# Altium footprint library RES.PcbLib: 27 footprints (part 1 of 2)
Each footprint in its own frame and in the unit in brackets; x right, y up, seen from the top. Pads: shape width x height; smd on the part's side, far side on the other; paste and mask are expansions set on the pad; w line width, h text height; cw(c..) or ccw(c..) is an arc to the next point about the centre after c.
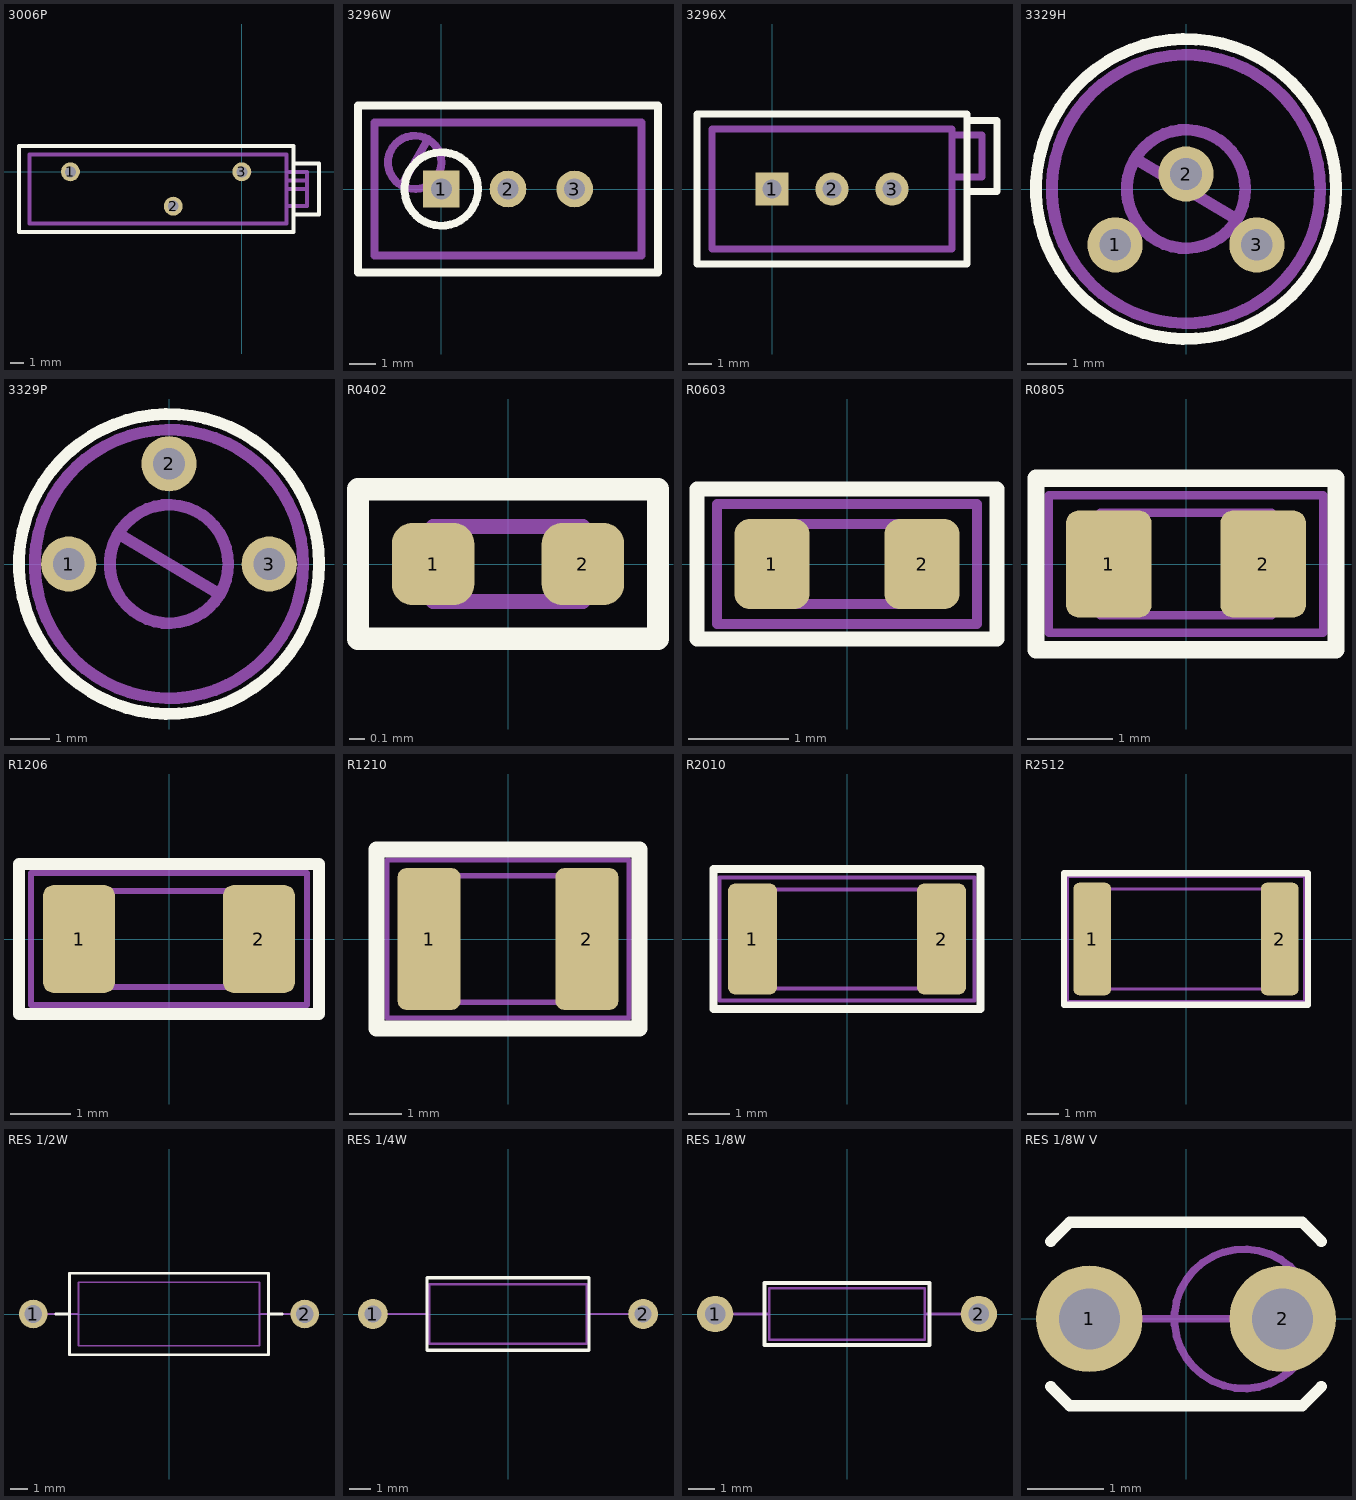
[diagram p0: the footprints below, top view; thin cyan lines are the x and y axes]

## 3006P [mm]
pads (3):
  round 1.4 hole 0.8: 1(-12.7,0) 2(-5.08,-2.54) 3(0,0)
Top Overlay:
  lines w0.3: 3.81,-3.175 5.715,-3.175 5.715,0.635 3.81,0.635 ; -16.51,-4.445 -16.51,1.905 3.81,1.905 3.81,-4.445 -16.51,-4.445
Mechanical 1:
  lines w0.3: 3.302,-2.54 4.826,-2.54 4.826,0 3.302,0 ; 3.302,-1.27 4.826,-1.27 ; 3.302,-0.635 4.826,-0.635 ; -15.748,-3.81 -15.748,1.27 3.302,1.27 3.302,-3.81 -15.748,-3.81
3D body: height 6.4, standoff 0.4, extent -15.748,-3.8 3.3,1.27
3D body: height 5.8, standoff 3.6, extent 3.3,-2.365 4.8,-0.165

## 3296W [mm]
pads (3):
  rect 1.4x1.4 hole 0.8: 1(0,0)
  round 1.4 hole 0.8: 2(2.54,0) 3(5.08,0)
Top Overlay:
  circle w0.3: c0,0 r1.4
  lines w0.3: -3.175,-3.175 -3.175,3.175 8.255,3.175 8.255,-3.175 -3.175,-3.175
Mechanical 1:
  circle w0.3: c-1.016,1.016 r1.016
  lines w0.3: -1.524,0.127 -0.508,1.905 ; -2.54,-2.54 -2.54,2.54 7.62,2.54 7.62,-2.54 -2.54,-2.54
3D body: height 11.6, standoff 10.1, extent -2.299,0.1 -0.1,2.3
3D body: height 10.1, standoff 0.4, extent -2.54,-2.54 7.62,2.54

## 3296X [mm]
pads (3):
  rect 1.4x1.4 hole 0.8: 1(0,0)
  round 1.4 hole 0.8: 2(2.54,0) 3(5.08,0)
Top Overlay:
  lines w0.3: 8.255,-0.1 9.525,-0.1 9.525,2.9 8.255,2.9 ; -3.175,-3.175 -3.175,3.175 8.255,3.175 8.255,-3.175 -3.175,-3.175
Mechanical 1:
  lines w0.3: 7.62,0.511 8.89,0.511 8.89,2.289 7.62,2.289 ; -2.54,-2.54 -2.54,2.54 7.62,2.54 7.62,-2.54 -2.54,-2.54
3D body: height 9.9, standoff 7.7, extent 7.6,0.3 9.1,2.5
3D body: height 10.1, standoff 0.4, extent -2.54,-2.54 7.62,2.54

## 3329H [mm]
pads (3):
  round 1.4 hole 0.8: 1(-1.796,-1.416) 2(0,0.38) 3(1.796,-1.416)
Top Overlay:
  circle w0.3: c0,0 r3.8
Mechanical 1:
  circle w0.3: c0,0 r1.5
  circle w0.3: c0,0 r3.4
  lines w0.3: -1.27,0.762 1.27,-0.762

## 3329P [mm]
pads (3):
  round 1.4 hole 0.8: 1(-2.54,0) 2(0,2.54) 3(2.54,0)
Top Overlay:
  circle w0.3: c0,0 r3.8
Mechanical 1:
  circle w0.3: c0,0 r3.4
  circle w0.3: c0,0 r1.5
  lines w0.3: -1.27,0.762 1.27,-0.762

## R0402 [mm]
height 0.35
pads (2):
  rrect50% 0.55x0.55 smd: 1(-0.5,0) 2(0.5,0)
Top Overlay:
  lines w0.15: -1,-0.5 1,-0.5 1,0.5 -1,0.5 -1,-0.5
Mechanical 1:
  lines w0.1: -0.3,-0.25 -0.3,0.25 ; 0.3,-0.25 0.3,0.25 ; -0.5,-0.25 -0.5,0.25 0.5,0.25 0.5,-0.25 -0.5,-0.25
Mechanical 5:
  lines w0.1: -1,-0.5 -1,0.5 1,0.5 1,-0.5 -1,-0.5
  text ".Designator" at -0.8,-0.3 h0.6
Mechanical 6:
  lines w0.1: -1,-0.5 1,-0.5 1,0.5 -1,0.5 -1,-0.5
  text ".Comment" at -0.8,-0.3 h0.6
3D body: height 0.35, standoff 0.25, extent -0.3,-0.275 0.3,0.275
3D body: height 0.3, standoff 0, extent -0.5,-0.25 0.5,0.25

## R0603 [mm]
height 0.45
pads (2):
  rrect40% 0.75x0.9 smd: 1(-0.75,0) 2(0.75,0)
Top Overlay:
  lines w0.15: -1.5,-0.75 1.5,-0.75 1.5,0.75 -1.5,0.75 -1.5,-0.75
Mechanical 1:
  lines w0.1: -0.5,-0.4 -0.5,0.4 ; 0.5,-0.4 0.5,0.4 ; -0.8,-0.4 0.8,-0.4 0.8,0.4 -0.8,0.4 -0.8,-0.4
Mechanical 5:
  lines w0.1: -1.3,-0.6 -1.3,0.6 1.3,0.6 1.3,-0.6 -1.3,-0.6
  text ".Designator" at -1.1,-0.4 h0.8
Mechanical 6:
  lines w0.1: -1.3,-0.6 1.3,-0.6 1.3,0.6 -1.3,0.6 -1.3,-0.6
  text ".Comment" at -1.1,-0.4 h0.8
3D body: height 0.4, standoff 0, extent -0.8,-0.375 0.8,0.375
3D body: height 0.45, standoff 0.35, extent -0.5,-0.4 0.5,0.4

## R0805 [mm]
height 0.5
pads (2):
  rrect30% 1x1.25 smd: 1(-0.9,0) 2(0.9,0)
Top Overlay:
  lines w0.2: -1.75,-1 -1.75,1 1.75,1 1.75,-1 -1.75,-1
Mechanical 1:
  lines w0.1: -0.5,-0.6 -0.5,0.6 ; 0.5,-0.6 0.5,0.6 ; -1,-0.6 -1,0.6 1,0.6 1,-0.6 -1,-0.6
Mechanical 5:
  lines w0.1: -1.6,-0.8 -1.6,0.8 1.6,0.8 1.6,-0.8 -1.6,-0.8
  text ".Designator" at -1.3,-0.5 h1
Mechanical 6:
  lines w0.1: -1.6,-0.8 1.6,-0.8 1.6,0.8 -1.6,0.8 -1.6,-0.8
  text ".Comment" at -1.3,-0.5 h1
3D body: height 0.45, standoff 0, extent -1,-0.575 1,0.575
3D body: height 0.5, standoff 0.4, extent -0.6,-0.6 0.6,0.6

## R1206 [mm]
height 0.6
pads (2):
  rrect30% 1.2x1.8 smd: 1(-1.5,0) 2(1.5,0)
Top Overlay:
  lines w0.2: -2.5,-1.25 2.5,-1.25 2.5,1.25 -2.5,1.25 -2.5,-1.25
Mechanical 1:
  lines w0.1: -1.1,-0.8 -1.1,0.8 ; 1.1,-0.8 1.1,0.8 ; -1.6,-0.8 -1.6,0.8 1.6,0.8 1.6,-0.8 -1.6,-0.8
Mechanical 5:
  lines w0.1: -2.3,-1.1 -2.3,1.1 2.3,1.1 2.3,-1.1 -2.3,-1.1
  text ".Designator" at -2,-0.8 h1.5
Mechanical 6:
  lines w0.1: -2.3,-1.1 2.3,-1.1 2.3,1.1 -2.3,1.1 -2.3,-1.1
  text ".Comment" at -2,-0.8 h1.5
3D body: height 0.55, standoff 0, extent -1.6,-0.775 1.6,0.775
3D body: height 0.6, standoff 0.5, extent -1.1,-0.8 1.1,0.8

## R1210 [mm]
height 0.6
pads (2):
  rrect30% 1.2x2.7 smd: 1(-1.5,0) 2(1.5,0)
Top Overlay:
  lines w0.3: -2.5,-1.7 2.5,-1.7 2.5,1.7 -2.5,1.7 -2.5,-1.7
Mechanical 1:
  lines w0.1: -1.1,-1.2 -1.1,1.2 ; 1.1,-1.2 1.1,1.2 ; -1.6,-1.2 -1.6,1.2 1.6,1.2 1.6,-1.2 -1.6,-1.2
Mechanical 5:
  lines w0.1: -2.3,-1.5 -2.3,1.5 2.3,1.5 2.3,-1.5 -2.3,-1.5
  text ".Designator" at -2,-0.8 h1.5
Mechanical 6:
  lines w0.1: -2.3,-1.5 2.3,-1.5 2.3,1.5 -2.3,1.5 -2.3,-1.5
  text ".Comment" at -2,-0.8 h1.5
3D body: height 0.6, standoff 0.5, extent -1.1,-1.275 1.1,1.275
3D body: height 0.55, standoff 0, extent -1.6,-1.25 1.6,1.25

## R2010 [mm]
height 0.6
pads (2):
  rrect30% 1.2x2.7 smd: 1(-2.3,0) 2(2.3,0)
Top Overlay:
  lines w0.2: -3.25,-1.7 3.25,-1.7 3.25,1.7 -3.25,1.7 -3.25,-1.7
Mechanical 1:
  lines w0.1: -1.9,-1.2 -1.9,1.2 ; 1.9,-1.2 1.9,1.2 ; -2.5,-1.2 -2.5,1.2 2.5,1.2 2.5,-1.2 -2.5,-1.2
Mechanical 5:
  lines w0.1: -3.1,-1.5 -3.1,1.5 3.1,1.5 3.1,-1.5 -3.1,-1.5
  text ".Designator" at -2,-0.8 h1.5
Mechanical 6:
  lines w0.1: -3.1,-1.5 3.1,-1.5 3.1,1.5 -3.1,1.5 -3.1,-1.5
  text ".Comment" at -2,-0.8 h1.5
3D body: height 0.6, standoff 0.5, extent -1.9,-1.275 1.9,1.275
3D body: height 0.55, standoff 0, extent -2.5,-1.25 2.5,1.25

## R2512 [mm]
height 0.6
pads (2):
  rrect30% 1.2x3.6 smd: 1(-3,0) 2(3,0)
Top Overlay:
  lines w0.2: -3.9,-2.1 3.9,-2.1 3.9,2.1 -3.9,2.1 -3.9,-2.1
Mechanical 1:
  lines w0.1: -2.6,-1.6 -2.6,1.6 ; 2.6,-1.6 2.6,1.6 ; -3.2,-1.6 -3.2,1.6 3.2,1.6 3.2,-1.6 -3.2,-1.6
Mechanical 5:
  lines w0.1: -3.8,-2 -3.8,2 3.8,2 3.8,-2 -3.8,-2
  text ".Designator" at -2,-0.8 h1.5
Mechanical 6:
  lines w0.1: -3.8,-2 3.8,-2 3.8,2 -3.8,2 -3.8,-2
  text ".Comment" at -2,-0.8 h1.5
3D body: height 0.6, standoff 0.5, extent -2.6,-1.6 2.6,1.6
3D body: height 0.55, standoff 0, extent -3.2,-1.6 3.2,1.6

## RES 1/2W [mm]
height 4
pads (2):
  round 1.6 hole 1: 1(-7.62,0) 2(7.62,0)
Top Overlay:
  lines w0.15: -6.35,0 -5.588,0 ; 5.588,0 6.35,0 ; -5.588,-2.286 -5.588,2.286 5.588,2.286 5.588,-2.286 -5.588,-2.286
Mechanical 1:
  lines w0.1: -7.62,0 -5.08,0 ; 5.08,0 7.62,0 ; -5.08,-1.778 -5.08,1.778 5.08,1.778 5.08,-1.778 -5.08,-1.778
3D body: height 3.79, standoff 0.2, extent -5.1,-1.8 5.1,1.797

## RES 1/4W [mm]
height 2.8
pads (2):
  round 1.4 hole 0.8: 1(-6.35,0) 2(6.35,0)
Top Overlay:
  lines w0.15: -3.81,-1.7 3.81,-1.7 3.81,1.7 -3.81,1.7 -3.81,-1.7
Mechanical 1:
  lines w0.1: -6,0 -3.7,0 ; 3.7,0 5.8,0 ; -3.7,-1.4 -3.7,1.4 3.7,1.4 3.7,-1.4 -3.7,-1.4
3D body: height 2.8, standoff 0.2, extent -3.65,-1.298 3.65,1.3

## RES 1/8W [mm]
height 2
pads (2):
  round 1.4 hole 0.8: 1(-5.08,0) 2(5.08,0)
Top Overlay:
  lines w0.15: -3.175,-1.2 -3.175,1.2 3.175,1.2 3.175,-1.2 -3.175,-1.2
Mechanical 1:
  lines w0.1: -5,0 -3,0 ; 3,0 5,0 ; -3,-1 -3,1 3,1 3,-1 -3,-1
3D body: height 1.9, standoff 0.1, extent -3,-0.9 3,0.894

## RES 1/8W V [mm]
height 10
pads (2):
  round 1.4 hole 0.8: 1(-1.27,0) 2(1.27,0)
Top Overlay:
  lines w0.15: -1.778,-0.889 -1.524,-1.143 1.524,-1.143 1.778,-0.889 ; -1.778,1.016 -1.524,1.27 1.524,1.27 1.778,1.016
Mechanical 1:
  circle w0.1: c0.762,0 r0.916
  lines w0.1: -1.27,0 0.762,0
3D body: height 6.56, standoff 0.39, extent -0.735,-0.897 1.782,0.897